# Altium schematic symbol library WE-WIRL.SchLib: 52 symbols
Pins are listed as number, name and electrical type; pins without a type are passive.

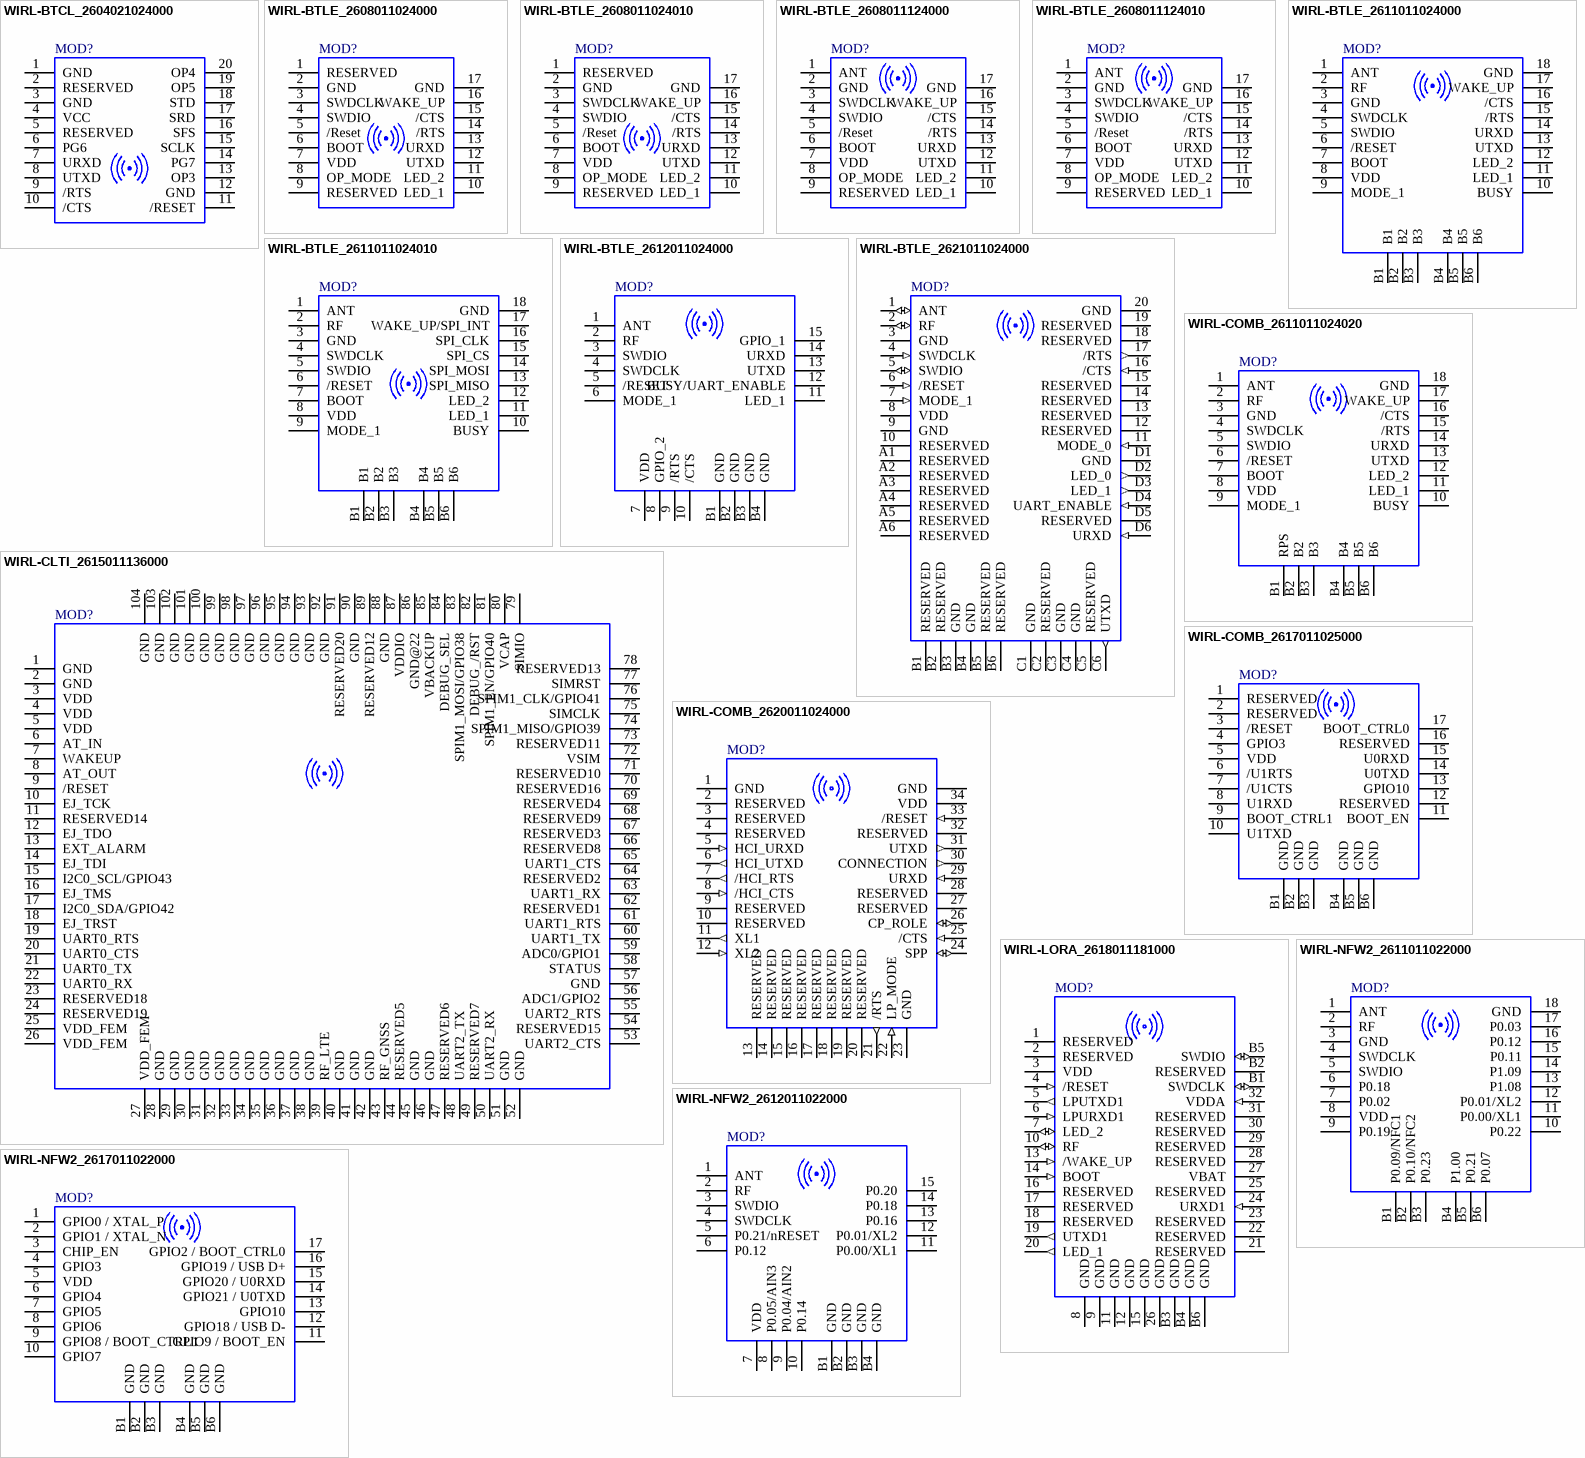
[diagram p0: symbols WIRL-BTCL_2604021024000 to WIRL-NFW2_2617011022000]

## WIRL-BTCL_2604021024000
designator MOD?
Puck-I - Bluetooth Classic Radio Module NRND; Part Number: 2604021024000; RX sensitivity e.r.p.: -80dBm; Line of Sight Range: 20m; Frequency: 2402-2480MHz; Output Power e.r.p.: 1.4dBm; Operating Supply Voltage max.: 3.6V; Operating Supply Voltage min.: 2.9V; RF Bitrate max.: 2000kbps; ComponentLink1Description: Manufacturer; ComponentLink1URL: http://www.we-online.de; ComponentLink2Description: Datasheet; ComponentLink2URL: https://katalog.we-online.de/wco/datasheet/2604021024000.pdf; Published Date: April 2019; Publisher: Wurth Elektronik; Operating Temperature: -40 to +85degC; Mounting Technology: SMT; Packaging: Tape and Reel
footprint 2604021024000
pins: 1 GND, 2 RESERVED, 3 GND, 4 VCC, 5 RESERVED, 6 PG6, 7 URXD, 8 UTXD, 9 /RTS, 10 /CTS, 11 /RESET, 12 GND, 13 OP3, 14 PG7, 15 SCLK, 16 SFS, 17 SRD, 18 STD, 19 OP5, 20 OP4

## WIRL-BTLE_2608011024000
designator MOD?
Proteus-I - Bluetooth Smart 4.2 Module, with PCB-antenna; Part Number: 2608011024000; RX sensitivity e.r.p.: -91dBm; Line of Sight Range: 50m; Frequency: 2402-2480MHz; Output Power e.r.p.: -2dBm; Operating Supply Voltage max.: 3.6V; Operating Supply Voltage min.: 1.8V; RF Bitrate max.: 1000kbps; ComponentLink1Description: Manufacturer; ComponentLink1URL: http://www.we-online.de; ComponentLink2Description: Datasheet; ComponentLink2URL: https://katalog.we-online.de/wco/datasheet/2608011024000.pdf; Published Date: April 2019; Publisher: Wurth Elektronik; Operating Temperature: -40 to +85degC; Mounting Technology: SMT; Packaging: Tape and Reel
footprint WE-FP-4
pins: 1 RESERVED, 2 GND, 3 SWDCLK, 4 SWDIO, 5 /Reset, 6 BOOT, 7 VDD, 8 OP_MODE, 9 RESERVED, 10 LED_1, 11 LED_2, 12 UTXD, 13 URXD, 14 /RTS, 15 /CTS, 16 WAKE_UP, 17 GND

## WIRL-BTLE_2608011024010
designator MOD?
Proteus-II - Bluetooth Smart 5.0 Module, with PCB-antenna; Part Number: 2608011024010; RX sensitivity e.r.p.: -91dBm; Line of Sight Range: 50m; Frequency: 2402-2480MHz; Output Power e.r.p.: -2dBm; Operating Supply Voltage max.: 3.6V; Operating Supply Voltage min.: 1.8V; RF Bitrate max.: 2000kbps; ComponentLink1Description: Manufacturer; ComponentLink1URL: http://www.we-online.de; ComponentLink2Description: Datasheet; ComponentLink2URL: https://katalog.we-online.de/wco/datasheet/2608011024010.pdf; Published Date: April 2019; Publisher: Wurth Elektronik; Operating Temperature: -40 to +85degC; Mounting Technology: SMT; Packaging: Tape and Reel
footprint WE-FP-4
pins: 1 RESERVED, 2 GND, 3 SWDCLK, 4 SWDIO, 5 /Reset, 6 BOOT, 7 VDD, 8 OP_MODE, 9 RESERVED, 10 LED_1, 11 LED_2, 12 UTXD, 13 URXD, 14 /RTS, 15 /CTS, 16 WAKE_UP, 17 GND

## WIRL-BTLE_2608011124000
designator MOD?
Proteus-I - Bluetooth Smart 4.2 Module, with module-pad; Part Number: 2608011124000; RX sensitivity e.r.p.: –; Line of Sight Range: 100m; Frequency: 2402-2480MHz; Operating Supply Voltage max.: 3.6V; Operating Supply Voltage min.: 1.8V; RF Bitrate max.: 1000kbps; ComponentLink1Description: Manufacturer; ComponentLink1URL: http://www.we-online.de; ComponentLink2Description: Datasheet; ComponentLink2URL: https://katalog.we-online.de/wco/datasheet/2608011124000.pdf; Published Date: April 2019; Publisher: Wurth Elektronik; Operating Temperature: -40 to +85degC; Mounting Technology: SMT; Packaging: Tape and Reel; Output Power e.r.p.: –
footprint WE-FP-4
pins: 1 ANT, 2 GND, 3 SWDCLK, 4 SWDIO, 5 /Reset, 6 BOOT, 7 VDD, 8 OP_MODE, 9 RESERVED, 10 LED_1, 11 LED_2, 12 UTXD, 13 URXD, 14 /RTS, 15 /CTS, 16 WAKE_UP, 17 GND

## WIRL-BTLE_2608011124010
designator MOD?
Proteus-II - Bluetooth Smart 5.0 Module, with RF-signal to module-pad; Part Number: 2608011124010; RX sensitivity e.r.p.: –; Line of Sight Range: 100m; Frequency: 2402-2480MHz; Operating Supply Voltage max.: 3.6V; Operating Supply Voltage min.: 1.8V; RF Bitrate max.: 2000kbps; ComponentLink1Description: Manufacturer; ComponentLink1URL: http://www.we-online.de; ComponentLink2Description: Datasheet; ComponentLink2URL: https://katalog.we-online.de/wco/datasheet/2608011124010.pdf; Published Date: April 2019; Publisher: Wurth Elektronik; Operating Temperature: -40 to +85degC; Mounting Technology: SMT; Packaging: Tape and Reel; Output Power e.r.p.: –
footprint WE-FP-4
pins: 1 ANT, 2 GND, 3 SWDCLK, 4 SWDIO, 5 /Reset, 6 BOOT, 7 VDD, 8 OP_MODE, 9 RESERVED, 10 LED_1, 11 LED_2, 12 UTXD, 13 URXD, 14 /RTS, 15 /CTS, 16 WAKE_UP, 17 GND

## WIRL-BTLE_2611011024000
designator MOD?
Proteus-III - Bluetooth® LE 5.1 Module; Part Number: 2611011024000; RX sensitivity e.r.p.: –; Line of Sight Range: 400; Frequency: 2402-2480MHz; Operating Supply Voltage max.: 3.6V; Operating Supply Voltage min.: 1.8V; RF Bitrate max.: 2000kbps; ComponentLink1Description: Manufacturer; ComponentLink1URL: http://www.we-online.de; ComponentLink2Description: Datasheet; ComponentLink2URL: https://katalog.we-online.de/wco/datasheet/2611011024000.pdf; Published Date: April 2019; Publisher: Wurth Elektronik; Operating Temperature: -40 to +85degC; Mounting Technology: SMT; Packaging: Tape and Reel; Output Power e.r.p.: –
footprint WE-FP-4+
pins: 1 ANT, 2 RF, 3 GND, 4 SWDCLK, 5 SWDIO, 6 /RESET, 7 BOOT, 8 VDD, 9 MODE_1, 10 BUSY, 11 LED_1, 12 LED_2, 13 UTXD, 14 URXD, 15 /RTS, 16 /CTS, 17 WAKE_UP, 18 GND, B1, B2, B3, B4, B5, B6

## WIRL-BTLE_2611011024010
designator MOD?
Proteus-III-SPI Bluetooth® LE 5.1 Module; Part Number: 2611011024000; RX sensitivity e.r.p.: –; Line of Sight Range: 400; Frequency: 2402-2480MHz; Operating Supply Voltage max.: 3.6V; Operating Supply Voltage min.: 1.8V; RF Bitrate max.: 2000kbps; ComponentLink1Description: Manufacturer; ComponentLink1URL: http://www.we-online.de; ComponentLink2Description: Datasheet; ComponentLink2URL: https://katalog.we-online.de/wco/datasheet/2611011024010.pdf; Published Date: April 2019; Publisher: Wurth Elektronik; Operating Temperature: -40 to +85degC; Mounting Technology: SMT; Packaging: Tape and Reel; Output Power e.r.p.: –
footprint WE-FP-4+
pins: 1 ANT, 2 RF, 3 GND, 4 SWDCLK, 5 SWDIO, 6 /RESET, 7 BOOT, 8 VDD, 9 MODE_1, 10 BUSY, 11 LED_1, 12 LED_2, 13 SPI_MISO, 14 SPI_MOSI, 15 SPI_CS, 16 SPI_CLK, 17 WAKE_UP/SPI_INT, 18 GND, B1, B2, B3, B4, B5, B6

## WIRL-BTLE_2612011024000
designator MOD?
Proteus-e Bluetooth® LE 5.1 Module; Part Number: 2612011024000; RX sensitivity e.r.p: -85; Line of Sight: 350m; Frequency: 2402-2480MHz; Output Power e.r.p: -4dBm; Operating Supply Voltage max.: 3.6V; Operating Supply Voltage min.: 1.8V; Published Date: Jan 2022; Publisher: Würth Elektronik; Operating Temperature: -40 to +85degC; Mounting technology: SMT; Packaging: Tape and reel; ComponentLink1Description: Manufacturer; ComponentLink1URL: http://www.we-online.de; ComponentLink2Description: Datasheet; ComponentLink2URL: https://katalog.we-online.de/wco/datasheet/2612011024000.pdf
footprint WE-FP-6 (Proteus-E/Ophelia-I 2.4GHz Module)
pins: 1 ANT, 2 RF, 3 SWDIO, 4 SWDCLK, 5 /RESET, 6 MODE_1, 7 VDD, 8 GPIO_2, 9 /RTS, 10 /CTS, 11 LED_1, 12 BUSY/UART_ENABLE, 13 UTXD, 14 URXD, 15 GPIO_1, B1 GND, B2 GND, B3 GND, B4 GND

## WIRL-BTLE_2621011024000
designator MOD?
Proteus-IV Bluetooth 6.0 module; Manufacturer Part Number: 2621011024000; Manufacturer: Wurth Elektronik; Match Code: WIRL-BTLE; Mount: Surface Mount; Min Operating Temperature: -40°C; Max Operating Temperature: 105°C; Packaging: Tape; Length: 12mm; Width: 8mm; Height: 2.3mm
footprint 2621011024000
pins: 1 ANT (io), 2 RF (io), 3 GND (power), 4 SWDCLK (in), 5 SWDIO (io), 6 /RESET (in), 7 MODE_1 (in), 8 VDD (power), 9 GND (power), 10 RESERVED, 11 MODE_0 (in), 12 RESERVED, 13 RESERVED, 14 RESERVED, 15 RESERVED, 16 /CTS (in), 17 /RTS (out), 18 RESERVED, 19 RESERVED, 20 GND (power), A1 RESERVED, A2 RESERVED, A3 RESERVED, A4 RESERVED, A5 RESERVED, A6 RESERVED, B1 RESERVED, B2 RESERVED, B3 GND (power), B4 GND (power), B5 RESERVED, B6 RESERVED, C1 GND (power), C2 RESERVED, C3 GND (power), C4 GND (power), C5 RESERVED, C6 UTXD (out), D1 GND (power), D2 LED_0 (out), D3 LED_1 (out), D4 UART_ENABLE (in), D5 RESERVED, D6 URXD (in)

## WIRL-CLTI_2615011136000
designator MOD?
Cellular Technology: LTE-Cat.m and LTE-Cat.NB-IoT Integrated GNSS and Integrated MCU; Part Number: 2615011136000; MANUFACTURER: Wuerth Elektronik; Operating Supply Voltage max.: 4.3V; LTE Bands (LTE Cat.M): B2/B3/B4/B5/B8/B12/B20/B25/B26/B28; LTE Bands (NB-IoT): B3/B5/B8/B20/B28; Operating Supply Voltage min.: 2.3V; Operating Supply Voltage Front End Module Min.: 3.1V; Published Date: April 2022; Publisher: Wuerth Elektronik; Packaging: Tape and Reel; HEIGHT: 1.85mm; ComponentLink1Description: Manufacturer; ComponentLink1URL: http://www.we-online.de; ComponentLink2Description: Datasheet; ComponentLink2URL: https://www.we-online.com/katalog/datasheet/2615011136000.pdf; Mounting Technology: SMT; Operating Supply Voltage Front End Module Max.: 4.3V
footprint 2615011136000
pins: 1 GND, 2 GND, 3 VDD, 4 VDD, 5 VDD, 6 AT_IN, 7 WAKEUP, 8 AT_OUT, 9 /RESET, 10 EJ_TCK, 11 RESERVED14, 12 EJ_TDO, 13 EXT_ALARM, 14 EJ_TDI, 15 I2C0_SCL/GPIO43, 16 EJ_TMS, 17 I2C0_SDA/GPIO42, 18 EJ_TRST, 19 UART0_RTS, 20 UART0_CTS, 21 UART0_TX, 22 UART0_RX, 23 RESERVED18, 24 RESERVED19, 25 VDD_FEM, 26 VDD_FEM (power), 27 VDD_FEM, 28 GND, 29 GND, 30 GND, 31 GND, 32 GND, 33 GND, 34 GND, 35 GND, 36 GND, 37 GND, 38 GND, 39 RF_LTE, 40 GND, 41 GND, 42 GND, 43 RF_GNSS, 44 RESERVED5, 45 GND, 46 GND, 47 RESERVED6, 48 UART2_TX, 49 RESERVED7, 50 UART2_RX, 51 GND, 52 GND, 53 UART2_CTS, 54 RESERVED15, 55 UART2_RTS, 56 ADC1/GPIO2, 57 GND, 58 STATUS, 59 ADC0/GPIO1, 60 UART1_TX, 61 UART1_RTS, 62 RESERVED1, 63 UART1_RX, 64 RESERVED2, 65 UART1_CTS, 66 RESERVED8, 67 RESERVED3, 68 RESERVED9, 69 RESERVED4, 70 RESERVED16, 71 RESERVED10, 72 VSIM, 73 RESERVED11, 74 SPIM1_MISO/GPIO39, 75 SIMCLK, 76 SPIM1_CLK/GPIO41, 77 SIMRST, 78 RESERVED13, 79 SIMIO, 80 VCAP, 81 SPIM1_EN/GPIO40, 82 DEBUG_/RST, 83 SPIM1_MOSI/GPIO38, 84 DEBUG_SEL, 85 VBACKUP, 86 GND@22, 87 VDDIO, 88 GND, 89 RESERVED12, 90 GND, 91 RESERVED20, 92 GND, 93 GND, 94 GND, 95 GND, 96 GND, 97 GND, 98 GND, 99 GND, 100 GND, 101 GND, 102 GND, 103 GND, 104 GND (power)

## WIRL-COMB_2611011024020
designator MOD?
Setebos-I - Combined Proprietary 2.4 GHz and Bluetooth® LE 5.1 Module; Part Number: 2611011024020; RX sensitivity e.r.p.: -98 dBm; Line of Sight Range: 600; Frequency: 2402-2480MHz; Output Power e.r.p.: 4 dBm; Operating Supply Voltage max.: 3.6 V; Operating Supply Voltage min.: 3 V; RF Bitrate max.: 2 Mbps; ComponentLink1Description: Manufacturer; ComponentLink1URL: http://www.we-online.de; ComponentLink2Description: Datasheet; ComponentLink2URL: https://katalog.we-online.de/wco/datasheet/2611011024020.pdf; Published Date: July 2021; Publisher: Wurth Elektronik; Operating Temperature: -40 to +85degC; Mounting Technology: SMT; Packaging: Tape and Reel
footprint WE-FP-4+
pins: 1 ANT, 2 RF, 3 GND, 4 SWDCLK, 5 SWDIO, 6 /RESET, 7 BOOT, 8 VDD, 9 MODE_1, 10 BUSY, 11 LED_1, 12 LED_2, 13 UTXD, 14 URXD, 15 /RTS, 16 /CTS, 17 WAKE_UP, 18 GND, B1 RPS, B2, B3, B4, B5, B6

## WIRL-COMB_2617011025000
designator MOD?
Stephano-I - Combined 2.4 GHz Wi-Fi and Bluetooth® LE 5.0 Module; Part Number: 2617011025000; RX sensitivity e.r.p.: -98 dBm; Line of Sight Range: 600; Frequency: 2402-2480MHz; Output Power e.r.p.: 4 dBm; Operating Supply Voltage max.: 3.6 V; Operating Supply Voltage min.: 3 V; RF Bitrate max.: 2 Mbps; ComponentLink1Description: Manufacturer; ComponentLink1URL: http://www.we-online.de; ComponentLink2Description: Datasheet; ComponentLink2URL: https://katalog.we-online.de/wco/datasheet/2617011025000.pdf; Published Date: October 2023; Publisher: Wurth Elektronik; Operating Temperature: -40 to +85degC; Mounting Technology: SMT; Packaging: Tape and Reel
footprint WE-FP-7
pins: 1 RESERVED, 2 RESERVED, 3 /RESET, 4 GPIO3, 5 VDD, 6 /U1RTS, 7 /U1CTS, 8 U1RXD, 9 BOOT_CTRL1, 10 U1TXD, 11 BOOT_EN, 12 RESERVED, 13 GPIO10, 14 U0TXD, 15 U0RXD, 16 RESERVED, 17 BOOT_CTRL0, B1 GND, B2 GND, B3 GND, B4 GND, B5 GND, B6 GND

## WIRL-COMB_2620011024000
designator MOD?
Skoll-I - Bluetooth® Classic and Bluetooth® LE 2.4 GHz; Manufacturer: Würth Elektronik; NR: 2620011024000; Operating Supply Voltage max.: 3.3 V; Operating Supply Voltage min.: 1.71 V; Package: WE-FP-9; Height: 1.7mm; Mounting technology: SMT; Packaging: Tape and reel; Operating temperature: -30°C to 85° C
footprint WE-FP-9
pins: 1 GND (power), 2 RESERVED, 3 RESERVED, 4 RESERVED, 5 HCI_URXD  (in), 6 HCI_UTXD  (out), 7 /HCI_RTS (out), 8 /HCI_CTS (in), 9 RESERVED, 10 RESERVED, 11 XL1 (out), 12 XL2 (in), 13 RESERVED, 14 RESERVED, 15 RESERVED, 16 RESERVED, 17 RESERVED, 18 RESERVED, 19 RESERVED, 20 RESERVED, 21 /RTS (out), 22 LP_MODE (in), 23 GND (power), 24 SPP (io), 25 /CTS (in), 26 CP_ROLE (io), 27 RESERVED, 28 RESERVED, 29 URXD (in), 30 CONNECTION (out), 31 UTXD (out), 32 RESERVED, 33 /RESET (in), 34 VDD (power), 35 GND (power)

## WIRL-LORA_2618011181000
designator MOD?
Daphnis-I - LoRaWAN Radio Module 868 MHz,; Manufacturer: Würth Elektronik; NR: 2618011181000; Frequency: 863 MHz to 870 MHz; Operating Supply Voltage max.: 3.6 V; Operating Supply Voltage min.: 2.0 V; Operating temperature: -40°C to 85° C; Mounting technology: SMT; Packaging: Tape and reel; Height: 3.0 mm
footprint WE-FP-8
pins: 1 RESERVED, 2 RESERVED, 3 VDD (power), 4 /RESET (in), 5 LPUTXD1 (out), 6 LPURXD1 (in), 7 LED_2 (io), 8 GND (power), 9 GND (power), 10 RF (io), 11 GND (power), 12 GND (power), 13 /WAKE_UP (in), 14 BOOT (in), 15 GND (power), 16 RESERVED, 17 RESERVED, 18 RESERVED, 19 UTXD1 (out), 20 LED_1 (out), 21 RESERVED, 22 RESERVED, 23 RESERVED, 24 URXD1 (in), 25 RESERVED, 26 GND (power), 27 VBAT (power), 28 RESERVED, 29 RESERVED, 30 RESERVED, 31 RESERVED, 32 VDDA (in), B1 SWDCLK (io), B2 RESERVED, B3 GND (power), B4 GND (power), B5 SWDIO (io), B6 GND (power)

## WIRL-NFW2_2611011022000
designator MOD?
Ophelia-III - Radio Module 2.4 GHz without firmware; Part Number: 2611011022000; RX sensitivity e.r.p.: –; Line of Sight Range: 400; Frequency: 2402-2480MHz; Operating Supply Voltage max.: 3.6V; Operating Supply Voltage min.: 1.8V; RF Bitrate max.: 2000kbps; ComponentLink1Description: Manufacturer; ComponentLink1URL: http://www.we-online.de; ComponentLink2Description: Datasheet; ComponentLink2URL: https://katalog.we-online.de/wco/datasheet/2611011022000.pdf; Published Date: April 2023; Publisher: Wurth Elektronik; Operating Temperature: -40 to +85degC; Mounting Technology: SMT; Packaging: Tape and Reel; Output Power e.r.p.: –
footprint WE-FP-4+
pins: 1 ANT, 2 RF, 3 GND, 4 SWDCLK, 5 SWDIO, 6 P0.18, 7 P0.02, 8 VDD, 9 P0.19, 10 P0.22, 11 P0.00/XL1, 12 P0.01/XL2, 13 P1.08, 14 P1.09, 15 P0.11, 16 P0.12, 17 P0.03, 18 GND, B1 P0.09/NFC1, B2 P0.10/NFC2, B3 P0.23, B4 P1.00, B5 P0.21, B6 P0.07

## WIRL-NFW2_2612011022000
designator MOD?
Ophelia-I Radio Module; Part Number: 2612011022000; RX sensitivity e.r.p.: -85; Line of Sight Range: 350m; Frequency: 2402-2480MHz; Output Power e.r.p.: -4dBm; Operating Supply Voltage max.: 3.6V; Operating Supply Voltage min.: 1.8V; ComponentLink1Description: Manufacturer; ComponentLink1URL: http://www.we-online.de; ComponentLink2Description: Datasheet; ComponentLink2URL: https://katalog.we-online.de/wco/datasheet/2612011022000.pdf; Published Date: Jan 2022; Publisher: Würth Elektronik; Operating Temperature: -40 to +85degC; Mounting Technology: SMT; Packaging: Tape and Reel
footprint WE-FP-6 (Proteus-E/Ophelia-I 2.4GHz Module)
pins: 1 ANT, 2 RF, 3 SWDIO, 4 SWDCLK, 5 P0.21/nRESET, 6 P0.12, 7 VDD, 8 P0.05/AIN3, 9 P0.04/AIN2, 10 P0.14, 11 P0.00/XL1, 12 P0.01/XL2, 13 P0.16, 14 P0.18, 15 P0.20, B1 GND, B2 GND, B3 GND, B4 GND

## WIRL-NFW2_2617011022000
designator MOD?
Orthosie-I- WIFI-BT module T&R; Part Number: 2617011025000; RX sensitivity e.r.p.: -98 dBm; Line of Sight Range: 600; Frequency: 2402-2480MHz; Output Power e.r.p.: 4 dBm; Operating Supply Voltage max.: 3.6 V; Operating Supply Voltage min.: 3 V; RF Bitrate max.: 2 Mbps; ComponentLink1Description: Manufacturer; ComponentLink1URL: http://www.we-online.de; ComponentLink2Description: Datasheet; ComponentLink2URL: https://katalog.we-online.de/wco/datasheet/2617011025000.pdf; Published Date: October 2023; Publisher: Wurth Elektronik; Operating Temperature: -40 to +85degC; Mounting Technology: SMT; Packaging: Tape and Reel
footprint WE-FP-7
pins: 1 GPIO0 / XTAL_P, 2 GPIO1 / XTAL_N, 3 CHIP_EN, 4 GPIO3, 5 VDD, 6 GPIO4, 7 GPIO5, 8 GPIO6, 9 GPIO8 / BOOT_CTRL1, 10 GPIO7, 11 GPIO9 / BOOT_EN, 12 GPIO18 / USB D-, 13 GPIO10, 14 GPIO21 / U0TXD, 15 GPIO20 / U0RXD, 16 GPIO19 / USB D+, 17 GPIO2 / BOOT_CTRL0, B1 GND, B2 GND, B3 GND, B4 GND, B5 GND, B6 GND

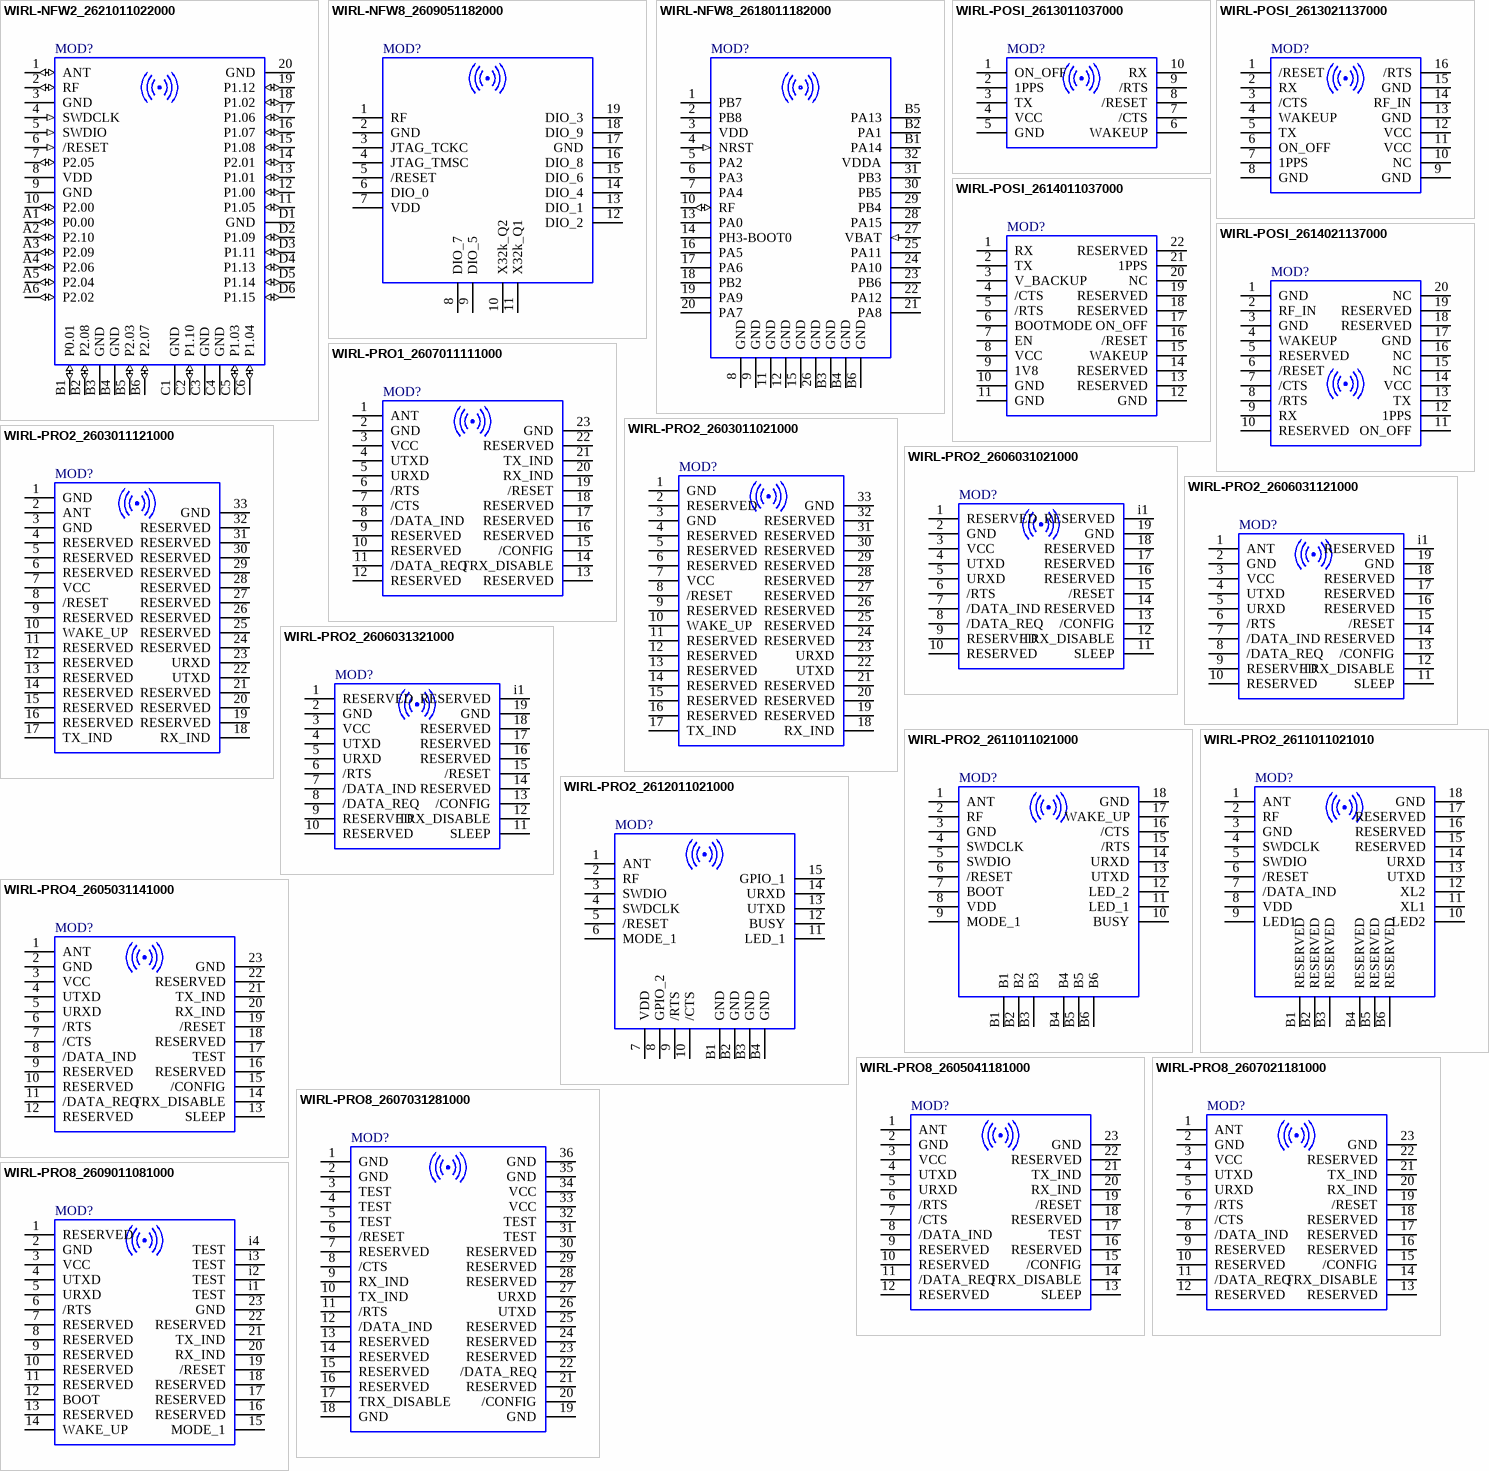
[diagram p1: symbols WIRL-NFW2_2621011022000 to WIRL-PRO8_2609011081000]

## WIRL-NFW2_2621011022000
designator MOD?
Ophelia-IV - Radio Module 2.4 GHz without firmware  WIRL-NFW2 build your own firmware Module   Details see: https://we-online.de/katalog/en/article/2611011022000/
footprint 2621011022000 (Ophelia-IV Radio module without firmware)
pins: 1 ANT (io), 2 RF (io), 3 GND (power), 4 SWDCLK (in), 5 SWDIO (in), 6 /RESET (in), 7 P2.05 (io), 8 VDD (power), 9 GND (power), 10 P2.00 (io), 11 P1.05 (io), 12 P1.00 (io), 13 P1.01 (io), 14 P2.01 (io), 15 P1.08 (io), 16 P1.07 (io), 17 P1.06 (io), 18 P1.02 (io), 19 P1.12 (io), 20 GND (power), A1 P0.00 (io), A2 P2.10 (io), A3 P2.09 (io), A4 P2.06 (io), A5 P2.04 (io), A6 P2.02 (io), B1 P0.01 (io), B2 P2.08 (io), B3 GND (power), B4 GND (power), B5 P2.03 (io), B6 P2.07 (io), C1 GND (power), C2 P1.10 (io), C3 GND (power), C4 GND (power), C5 P1.03 (io), C6 P1.04 (io), D1 GND (power), D2 P1.09 (io), D3 P1.11 (io), D4 P1.13 (io), D5 P1.14 (io), D6 P1.15 (io)

## WIRL-NFW8_2609051182000
designator MOD?
868 MHz Radio Module without firmware; MANUFACTURER: Würth Elektronik; NR: 2609051181000; Operating Supply Voltage max.: 3.8 V; Operating Supply Voltage min.: 2.2 V; Packaging: Tape and reel; HEIGHT: 2mm; Mounting technology: SMT; Operating temperature: -40°C to 85° C; ComponentLink1Description: Manufacturer; ComponentLink1URL: http://www.we-online.de; ComponentLink2Description: Datasheet; ComponentLink2URL: https://we-online.de/katalog/en/article/2609051181000
footprint WE-FP-4B
pins: 1 RF, 2 GND, 3 JTAG_TCKC, 4 JTAG_TMSC, 5 /RESET, 6 DIO_0, 7 VDD, 8 DIO_7, 9 DIO_5, 10 X32k_Q2, 11 X32k_Q1, 12 DIO_2, 13 DIO_1, 14 DIO_4, 15 DIO_6, 16 DIO_8, 17 GND, 18 DIO_9, 19 DIO_3

## WIRL-NFW8_2618011182000
designator MOD?
Oceanus-I - Radio Module 868 MHz without firmware; Manufacturer: Würth Elektronik; NR: 2618011182000; Frequency: 863 MHz to 870 MHz; Operating Supply Voltage max.: 3.6 V; Operating Supply Voltage min.: 2.0 V; Operating temperature: -40°C to 85° C; Mounting technology: SMT; Packaging: Tape and reel; Height: 3.0 mm
footprint WE-FP-8
pins: 1 PB7, 2 PB8, 3 VDD (power), 4 NRST (in), 5 PA2, 6 PA3, 7 PA4, 8 GND (power), 9 GND (power), 10 RF (io), 11 GND (power), 12 GND (power), 13 PA0, 14 PH3-BOOT0, 15 GND (power), 16 PA5, 17 PA6, 18 PB2, 19 PA9, 20 PA7, 21 PA8, 22 PA12, 23 PB6, 24 PA10, 25 PA11, 26 GND (power), 27 VBAT (in), 28 PA15, 29 PB4, 30 PB5, 31 PB3, 32 VDDA (power), B1 PA14, B2 PA1, B3 GND (power), B4 GND (power), B5 PA13, B6 GND (power)

## WIRL-POSI_2613011037000
designator MOD?
Elara-I GNSS Module -  GPS and GLONASS.; Part Number: 2613011037000; Published Date: Jan 2022; Publisher: Würth Elektronik; Height: 5.9mm; Package: SMT; ComponentLink1Description: Manufacturer; ComponentLink1URL: http://www.we-online.de; ComponentLink2Description: Datasheet; ComponentLink2URL: https://katalog.we-online.de/wco/datasheet/2613011037000.pdf
footprint 2613011037000
pins: 1 ON_OFF, 2 1PPS, 3 TX, 4 VCC, 5 GND, 6 WAKEUP, 7 /CTS, 8 /RESET, 9 /RTS, 10 RX

## WIRL-POSI_2613021137000
designator MOD?
Elara-II GNSS Module -  GPS and GLONASS.; Part Number: 2613021137000; Published Date: Jan 2022; Publisher: Würth Elektronik; Height: 2.2mm; Package: SMT; ComponentLink1Description: Manufacturer; ComponentLink1URL: http://www.we-online.de; ComponentLink2Description: Datasheet; ComponentLink2URL: https://katalog.we-online.de/wco/datasheet/2613021137000.pdf
footprint 2613021137000
pins: 1 /RESET, 2 RX, 3 /CTS, 4 WAKEUP, 5 TX, 6 ON_OFF, 7 1PPS, 8 GND, 9 GND, 10 NC, 11 VCC, 12 VCC, 13 GND, 14 RF_IN, 15 GND, 16 /RTS

## WIRL-POSI_2614011037000
designator MOD?
Erinome-I GNSS Module - BeiDou, Galileo, GPS, GLONASS.; Part Number: 2614011037000; Published Date: Jan 2022; Publisher: Würth Elektronik; Height: 6.4mm; Package: SMT; ComponentLink1Description: Manufacturer; ComponentLink1URL: http://www.we-online.de; ComponentLink2Description: Datasheet; ComponentLink2URL: https://katalog.we-online.de/wco/datasheet/2614011037000.pdf
footprint 2614011037000
pins: 1 RX, 2 TX, 3 V_BACKUP, 4 /CTS, 5 /RTS, 6 BOOTMODE, 7 EN, 8 VCC, 9 1V8, 10 GND, 11 GND, 12 GND, 13 RESERVED, 14 RESERVED, 15 WAKEUP, 16 /RESET, 17 ON_OFF, 18 RESERVED, 19 RESERVED, 20 NC, 21 1PPS, 22 RESERVED

## WIRL-POSI_2614021137000
designator MOD?
Erinome-II GNSS Module - BeiDou, Galileo, GPS, GLONASS.; Part number: 2614021137000; Published Date: Jan 2022; Publisher: Würth Elektronik; Height: 1.6mm; Package: SMT; ComponentLink1Description: Manufacturer; ComponentLink1URL: http://www.we-online.de; ComponentLink2Description: Datasheet; ComponentLink2URL: https://katalog.we-online.de/wco/datasheet/2614011137000.pdf
footprint 2614021137000
pins: 1 GND, 2 RF_IN, 3 GND, 4 WAKEUP, 5 RESERVED, 6 /RESET, 7 /CTS, 8 /RTS, 9 RX, 10 RESERVED, 11 ON_OFF, 12 1PPS, 13 TX, 14 VCC, 15 NC, 16 NC, 17 GND, 18 RESERVED, 19 RESERVED, 20 NC

## WIRL-PRO1_2607011111000
designator MOD?
Titania - Radio Module 169 MHz; Part Number: 2607011111000; Line of Sight Range: 3000m; Frequency: 169.4125-169.475MHz; Operating Supply Voltage max.: 3.6V; Operating Supply Voltage min.: 2V; RF Bitrate max.: 25kbps; ComponentLink1Description: Manufacturer; ComponentLink1URL: http://www.we-online.de; ComponentLink2Description: Datasheet; ComponentLink2URL: https://katalog.we-online.de/wco/datasheet/2607011111000.pdf; Published Date: April 2019; Publisher: Wurth Elektronik; Operating Temperature: -40 to +85degC; Mounting Technology: SMT; Packaging: Tape and Reel
footprint WE-FP-1
pins: 1 ANT, 2 GND, 3 VCC, 4 UTXD, 5 URXD, 6 /RTS, 7 /CTS, 8 /DATA_IND, 9 RESERVED, 10 RESERVED, 11 /DATA_REQ, 12 RESERVED, 13 RESERVED, 14 TRX_DISABLE, 15 /CONFIG, 16 RESERVED, 17 RESERVED, 18 RESERVED, 19 /RESET, 20 RX_IND, 21 TX_IND, 22 RESERVED, 23 GND

## WIRL-PRO2_2603011021000
designator MOD?
Triton - Radio Modules 2.4 GHz, with int. antenna; Part Number: 2603011021000; RX sensitivity e.r.p.: -113dBm; Line of Sight Range: 500m; Frequency: 2401.5-2477.5MHz; Output Power e.r.p.: 7.5dBm; Operating Supply Voltage max.: 3.6V; Operating Supply Voltage min.: 1.9V; RF Bitrate max.: 72kbps; ComponentLink1Description: Manufacturer; ComponentLink1URL: http://www.we-online.de; ComponentLink2Description: Datasheet; ComponentLink2URL: https://katalog.we-online.de/wco/datasheet/2603011021000.pdf; Published Date: April 2019; Publisher: Wurth Elektronik; Operating Temperature: -40 to +85degC; Mounting Technology: SMT; Packaging: Tape and Reel
footprint WE-FP-2
pins: 1 GND, 2 RESERVED, 3 GND, 4 RESERVED, 5 RESERVED, 6 RESERVED, 7 VCC, 8 /RESET, 9 RESERVED, 10 WAKE_UP, 11 RESERVED, 12 RESERVED, 13 RESERVED, 14 RESERVED, 15 RESERVED, 16 RESERVED, 17 TX_IND, 18 RX_IND, 19 RESERVED, 20 RESERVED, 21 RESERVED, 22 UTXD, 23 URXD, 24 RESERVED, 25 RESERVED, 26 RESERVED, 27 RESERVED, 28 RESERVED, 29 RESERVED, 30 RESERVED, 31 RESERVED, 32 RESERVED, 33 GND

## WIRL-PRO2_2603011121000
designator MOD?
Triton - Radio Modules 2.4 GHz, with ext. antenna; Part Number: 2603011121000; RX sensitivity e.r.p.: –; Line of Sight Range: 5000m; Frequency: 2401.5-2477.5MHz; Operating Supply Voltage max.: 3.6V; Operating Supply Voltage min.: 1.9V; RF Bitrate max.: 72kbps; ComponentLink1Description: Manufacturer; ComponentLink1URL: http://www.we-online.de; ComponentLink2Description: Datasheet; ComponentLink2URL: https://katalog.we-online.de/wco/datasheet/2603011121000.pdf; Published Date: April 2019; Publisher: Wurth Elektronik; Operating Temperature: -40 to +85degC; Mounting Technology: SMT; Packaging: Tape and Reel; Output Power e.r.p.: –
footprint WE-FP-2
pins: 1 GND, 2 ANT, 3 GND, 4 RESERVED, 5 RESERVED, 6 RESERVED, 7 VCC, 8 /RESET, 9 RESERVED, 10 WAKE_UP, 11 RESERVED, 12 RESERVED, 13 RESERVED, 14 RESERVED, 15 RESERVED, 16 RESERVED, 17 TX_IND, 18 RX_IND, 19 RESERVED, 20 RESERVED, 21 RESERVED, 22 UTXD, 23 URXD, 24 RESERVED, 25 RESERVED, 26 RESERVED, 27 RESERVED, 28 RESERVED, 29 RESERVED, 30 RESERVED, 31 RESERVED, 32 RESERVED, 33 GND

## WIRL-PRO2_2606031021000
designator MOD?
Thalassa - Radio Modules 2.4 GHz, with antenna; Part Number: 2606031021000; RX sensitivity e.r.p.: -96dBm; Line of Sight Range: 150m; Frequency: 2400-2483.5MHz; Output Power e.r.p.: -6dBm; Operating Supply Voltage max.: 3.6V; Operating Supply Voltage min.: 2.7V; RF Bitrate max.: 500kbps; ComponentLink1Description: Manufacturer; ComponentLink1URL: http://www.we-online.de; ComponentLink2Description: Datasheet; ComponentLink2URL: https://katalog.we-online.de/wco/datasheet/2606031021000.pdf; Published Date: April 2019; Publisher: Wurth Elektronik; Operating Temperature: -30 to +85degC; Mounting Technology: SMT; Packaging: Tape and Reel
footprint 2606031021000
pins: 1 RESERVED, 2 GND, 3 VCC, 4 UTXD, 5 URXD, 6 /RTS, 7 /DATA_IND, 8 /DATA_REQ, 9 RESERVED, 10 RESERVED, 11 SLEEP, 12 TRX_DISABLE, 13 /CONFIG, 14 RESERVED, 15 /RESET, 16 RESERVED, 17 RESERVED, 18 RESERVED, 19 GND, i1 RESERVED

## WIRL-PRO2_2606031121000
designator MOD?
Thalassa - Radio Modules 2.4 GHz, without antenna; Part Number: 2606031121000; RX sensitivity e.r.p.: –; Line of Sight Range: 450m; Frequency: 2400-2483.5MHz; Operating Supply Voltage max.: 3.6V; Operating Supply Voltage min.: 2.7V; RF Bitrate max.: 500kbps; ComponentLink1Description: Manufacturer; ComponentLink1URL: http://www.we-online.de; ComponentLink2Description: Datasheet; ComponentLink2URL: https://katalog.we-online.de/wco/datasheet/2606031121000.pdf; Published Date: April 2019; Publisher: Wurth Elektronik; Operating Temperature: -30 to +85degC; Mounting Technology: SMT; Packaging: Tape and Reel; Output Power e.r.p.: –
footprint 2606031121000
pins: 1 ANT, 2 GND, 3 VCC, 4 UTXD, 5 URXD, 6 /RTS, 7 /DATA_IND, 8 /DATA_REQ, 9 RESERVED, 10 RESERVED, 11 SLEEP, 12 TRX_DISABLE, 13 /CONFIG, 14 RESERVED, 15 /RESET, 16 RESERVED, 17 RESERVED, 18 RESERVED, 19 GND, i1 RESERVED

## WIRL-PRO2_2606031321000
designator MOD?
Thalassa - Radio Modules 2.4 GHz, with U.FL; Part Number: 2606031321000; RX sensitivity e.r.p.: –; Line of Sight Range: 450m; Frequency: 2400-2483.5MHz; Operating Supply Voltage max.: 3.6V; Operating Supply Voltage min.: 2.7V; RF Bitrate max.: 500kbps; ComponentLink1Description: Manufacturer; ComponentLink1URL: http://www.we-online.de; ComponentLink2Description: Datasheet; ComponentLink2URL: https://katalog.we-online.de/wco/datasheet/2606031321000.pdf; Published Date: April 2019; Publisher: Wurth Elektronik; Operating Temperature: -30 to +85degC; Mounting Technology: SMT; Packaging: Tape and Reel; Output Power e.r.p.: –
footprint 2606031321000
pins: 1 RESERVED, 2 GND, 3 VCC, 4 UTXD, 5 URXD, 6 /RTS, 7 /DATA_IND, 8 /DATA_REQ, 9 RESERVED, 10 RESERVED, 11 SLEEP, 12 TRX_DISABLE, 13 /CONFIG, 14 RESERVED, 15 /RESET, 16 RESERVED, 17 RESERVED, 18 RESERVED, 19 GND, i1 RESERVED

## WIRL-PRO2_2611011021000
designator MOD?
Thyone-I - Radio Modules 2.4 GHz; Part Number: 2611011021000; RX sensitivity e.r.p.: –; Line of Sight Range: 750m; Frequency: 2402-2480MHz; Operating Supply Voltage max.: 3.6V; Operating Supply Voltage min.: 1.8V; RF Bitrate max.: 2000kbps; ComponentLink1Description: Manufacturer; ComponentLink1URL: http://www.we-online.de; ComponentLink2Description: Datasheet; ComponentLink2URL: https://katalog.we-online.de/wco/datasheet/2611011021000.pdf; Published Date: April 2019; Publisher: Wurth Elektronik; Operating Temperature: -40 to +85 degC; Mounting Technology: SMT; Packaging: Tape and Reel; Output Power e.r.p.: –
footprint WE-FP-4+
pins: 1 ANT, 2 RF, 3 GND, 4 SWDCLK, 5 SWDIO, 6 /RESET, 7 BOOT, 8 VDD, 9 MODE_1, 10 BUSY, 11 LED_1, 12 LED_2, 13 UTXD, 14 URXD, 15 /RTS, 16 /CTS, 17 WAKE_UP, 18 GND, B1, B2, B3, B4, B5, B6

## WIRL-PRO2_2611011021010
designator MOD?
Thetis-I - Wirepas™ Mesh Radio Module 2.4GHz; Part Number: 2611011021000; RX sensitivity e.r.p.: –; Line of Sight Range: 750m; Frequency: 2402-2480MHz; Operating Supply Voltage max.: 3.6V; Operating Supply Voltage min.: 1.8V; RF Bitrate max.: 2000kbps; ComponentLink1Description: Manufacturer; ComponentLink1URL: http://www.we-online.de; ComponentLink2Description: Datasheet; ComponentLink2URL: https://katalog.we-online.de/wco/datasheet/2611011021010.pdf; Published Date: April 2019; Publisher: Wurth Elektronik; Operating Temperature: -40 to +85 degC; Mounting Technology: SMT; Packaging: Tape and Reel; Output Power e.r.p.: –
footprint WE-FP-4+
pins: 1 ANT, 2 RF, 3 GND, 4 SWDCLK, 5 SWDIO, 6 /RESET, 7 /DATA_IND, 8 VDD, 9 LED1, 10 LED2, 11 XL1, 12 XL2, 13 UTXD, 14 URXD, 15 RESERVED, 16 RESERVED, 17 RESERVED, 18 GND, B1 RESERVED, B2 RESERVED, B3 RESERVED, B4 RESERVED, B5 RESERVED, B6 RESERVED

## WIRL-PRO2_2612011021000
designator MOD?
Thyone-e Radio Module 2.4 GHz; Part Number: 2612011021000; RX sensitivity e.r.p: -85; Line of Sight: 350m; Frequency: 2402-2480MHz; Output Power e.r.p: -4dBm; Operating Supply Voltage max.: 3.6V; Operating Supply Voltage min.: 1.8V; Published Date: Aug 2024; Publisher: Würth Elektronik; Operating Temperature: -40 to +85degC; Mounting technology: SMT; Packaging: Tape and reel; ComponentLink1Description: Manufacturer; ComponentLink1URL: http://www.we-online.de; ComponentLink2Description: Datasheet; ComponentLink2URL: https://katalog.we-online.de/wco/datasheet/2612011021000.pdf
footprint WE-FP-6
pins: 1 ANT, 2 RF, 3 SWDIO, 4 SWDCLK, 5 /RESET, 6 MODE_1, 7 VDD, 8 GPIO_2, 9 /RTS, 10 /CTS, 11 LED_1, 12 BUSY, 13 UTXD, 14 URXD, 15 GPIO_1, B1 GND, B2 GND, B3 GND, B4 GND

## WIRL-PRO4_2605031141000
designator MOD?
Thadeus - Radio Module 434 MHz; Part Number: 2605031141000; Line of Sight Range: 1000m; Frequency: 433.75-434.75MHz; Operating Supply Voltage max.: 3.6V; Operating Supply Voltage min.: 2.2V; RF Bitrate max.: 100kbps; ComponentLink1Description: Manufacturer; ComponentLink1URL: http://www.we-online.de; ComponentLink2Description: Datasheet; ComponentLink2URL: https://katalog.we-online.de/wco/datasheet/2605031141000.pdf; Published Date: April 2019; Publisher: Wurth Elektronik; Operating Temperature: -30 to +85degC; Mounting Technology: SMT; Packaging: Tape and Reel
footprint WE-FP-1
pins: 1 ANT, 2 GND, 3 VCC, 4 UTXD, 5 URXD, 6 /RTS, 7 /CTS, 8 /DATA_IND, 9 RESERVED, 10 RESERVED, 11 /DATA_REQ, 12 RESERVED, 13 SLEEP, 14 TRX_DISABLE, 15 /CONFIG, 16 RESERVED, 17 TEST, 18 RESERVED, 19 /RESET, 20 RX_IND, 21 TX_IND, 22 RESERVED, 23 GND

## WIRL-PRO8_2605041181000
designator MOD?
Tarvos-I - Radio Modules 868 MHz; Part Number: 2605041181000; RX sensitivity e.r.p.: –; Line of Sight Range: 1000m; Frequency: 868-868.6MHz; Operating Supply Voltage max.: 3.6V; Operating Supply Voltage min.: 2.2V; RF Bitrate max.: 100kbps; ComponentLink1Description: Manufacturer; ComponentLink1URL: http://www.we-online.de; ComponentLink2Description: Datasheet; ComponentLink2URL: https://katalog.we-online.de/wco/datasheet/2605041181000.pdf; Published Date: April 2019; Publisher: Wurth Elektronik; Operating Temperature: -30 to +85degC; Mounting Technology: SMT; Packaging: Tape and Reel; Output Power e.r.p.: –
footprint WE-FP-1
pins: 1 ANT, 2 GND, 3 VCC, 4 UTXD, 5 URXD, 6 /RTS, 7 /CTS, 8 /DATA_IND, 9 RESERVED, 10 RESERVED, 11 /DATA_REQ, 12 RESERVED, 13 SLEEP, 14 TRX_DISABLE, 15 /CONFIG, 16 RESERVED, 17 TEST, 18 RESERVED, 19 /RESET, 20 RX_IND, 21 TX_IND, 22 RESERVED, 23 GND

## WIRL-PRO8_2607021181000
designator MOD?
Tarvos-II - Radio Modules 868 MHz; Part Number: 2607021181000; RX sensitivity e.r.p.: –; Line of Sight Range: 2000m; Frequency: 868-870MHz; Operating Supply Voltage max.: 3.6V; Operating Supply Voltage min.: 2V; RF Bitrate max.: 100kbps; ComponentLink1Description: Manufacturer; ComponentLink1URL: http://www.we-online.de; ComponentLink2Description: Datasheet; ComponentLink2URL: https://katalog.we-online.de/wco/datasheet/2607021181000.pdf; Published Date: April 2019; Publisher: Wurth Elektronik; Operating Temperature: -40 to +85degC; Mounting Technology: SMT; Packaging: Tape and Reel; Output Power e.r.p.: –
footprint WE-FP-1
pins: 1 ANT, 2 GND, 3 VCC, 4 UTXD, 5 URXD, 6 /RTS, 7 /CTS, 8 /DATA_IND, 9 RESERVED, 10 RESERVED, 11 /DATA_REQ, 12 RESERVED, 13 RESERVED, 14 TRX_DISABLE, 15 /CONFIG, 16 RESERVED, 17 RESERVED, 18 RESERVED, 19 /RESET, 20 RX_IND, 21 TX_IND, 22 RESERVED, 23 GND

## WIRL-PRO8_2607031281000
designator MOD?
Thebe-I Radio Modules 868MHz; Part Number: 2607031281000; RX sensitivity e.r.p.: –; Line of Sight Range: 14000m; Frequency: 869.4-869.65MHz; Operating Supply Voltage max.: 3.6V; Operating Supply Voltage min.: 2V; RF Bitrate max.: 50kbps; ComponentLink1Description: Manufacturer; ComponentLink1URL: http://www.we-online.de; Published Date: April 2019; Publisher: Wurth Elektronik; Operating Temperature: -40 to +85degC; Mounting Technology: SMT; Packaging: Tape and Reel; Output Power e.r.p.: –
footprint 2607031281000 (Radio module 868MHz)
pins: 1 GND, 2 GND, 3 TEST, 4 TEST, 5 TEST, 6 /RESET, 7 RESERVED, 8 /CTS, 9 RX_IND, 10 TX_IND, 11 /RTS, 12 /DATA_IND, 13 RESERVED, 14 RESERVED, 15 RESERVED, 16 RESERVED, 17 TRX_DISABLE, 18 GND, 19 GND, 20 /CONFIG, 21 RESERVED, 22 /DATA_REQ, 23 RESERVED, 24 RESERVED, 25 RESERVED, 26 UTXD, 27 URXD, 28 RESERVED, 29 RESERVED, 30 RESERVED, 31 TEST, 32 TEST, 33 VCC, 34 VCC, 35 GND, 36 GND

## WIRL-PRO8_2609011081000
designator MOD?
Tarvos-III - Radio Modules 868 MHz, with PCB-antenna; Part Number: 2609011081000; RX sensitivity e.r.p.: -104dBm; Line of Sight Range: 1000m; Frequency: 865-870MHz; Output Power e.r.p.: -8dBm; Operating Supply Voltage max.: 3.8V; Operating Supply Voltage min.: 2.2V; RF Bitrate max.: 400kbps; ComponentLink1Description: Manufacturer; ComponentLink1URL: http://www.we-online.de; ComponentLink2Description: Datasheet; ComponentLink2URL: https://katalog.we-online.de/wco/datasheet/2609011081000.pdf; Published Date: April 2019; Publisher: Wurth Elektronik; Operating Temperature: -40 to +85degC; Mounting Technology: SMT; Packaging: Tape and Reel
footprint WE-FP-1+
pins: 1 RESERVED, 2 GND, 3 VCC, 4 UTXD, 5 URXD, 6 /RTS, 7 RESERVED, 8 RESERVED, 9 RESERVED, 10 RESERVED, 11 RESERVED, 12 BOOT, 13 RESERVED, 14 WAKE_UP, 15 MODE_1, 16 RESERVED, 17 RESERVED, 18 RESERVED, 19 /RESET, 20 RX_IND, 21 TX_IND, 22 RESERVED, 23 GND, i1 TEST, i2 TEST, i3 TEST, i4 TEST

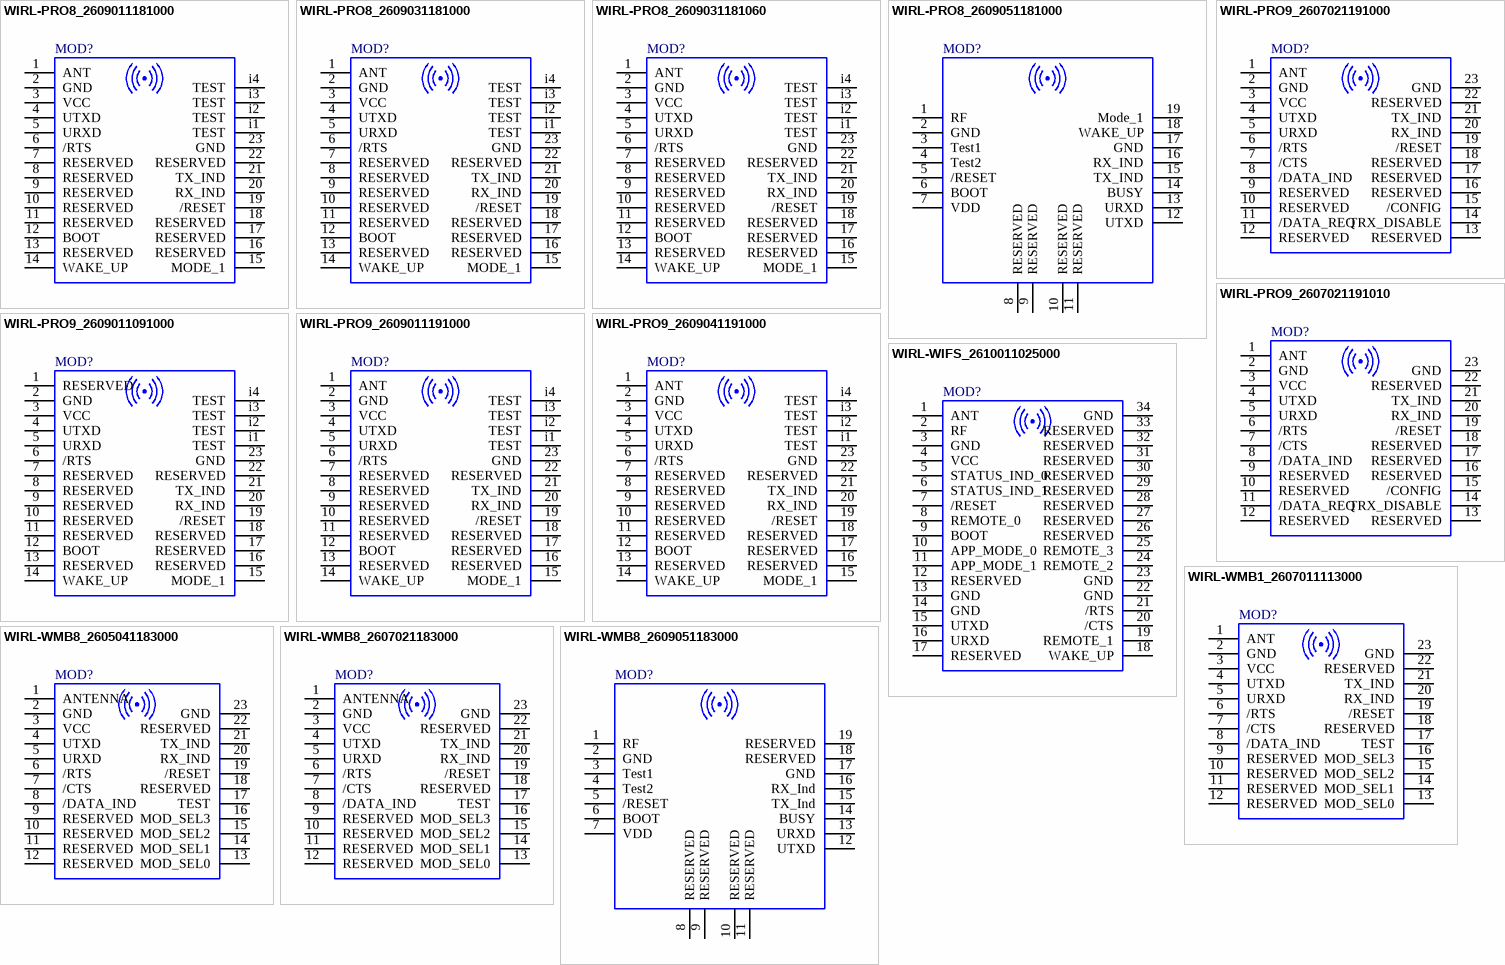
[diagram p2: symbols WIRL-PRO8_2609011181000 to WIRL-WMB8_2609051183000]

## WIRL-PRO8_2609011181000
designator MOD?
Tarvos-III - Radio Modules 868 MHz, with ext. antenna; Part Number: 2609011181000; RX sensitivity e.r.p.: –; Line of Sight Range: 10000m; Frequency: 865-870MHz; Operating Supply Voltage max.: 3.8V; Operating Supply Voltage min.: 2.2V; RF Bitrate max.: 400kbps; ComponentLink1Description: Manufacturer; ComponentLink1URL: http://www.we-online.de; ComponentLink2Description: Datasheet; ComponentLink2URL: https://katalog.we-online.de/wco/datasheet/2609011181000.pdf; Published Date: April 2019; Publisher: Wurth Elektronik; Operating Temperature: -40 to +85degC; Mounting Technology: SMT; Packaging: Tape and Reel; Output Power e.r.p.: –
footprint WE-FP-1+
pins: 1 ANT, 2 GND, 3 VCC, 4 UTXD, 5 URXD, 6 /RTS, 7 RESERVED, 8 RESERVED, 9 RESERVED, 10 RESERVED, 11 RESERVED, 12 BOOT, 13 RESERVED, 14 WAKE_UP, 15 MODE_1, 16 RESERVED, 17 RESERVED, 18 RESERVED, 19 /RESET, 20 RX_IND, 21 TX_IND, 22 RESERVED, 23 GND, i1 TEST, i2 TEST, i3 TEST, i4 TEST

## WIRL-PRO8_2609031181000
designator MOD?
Thebe-II - Radio Modules 868 MHz; Part Number: 2609031181000; RX sensitivity e.r.p.: –; Line of Sight Range: 20000m; Frequency: 869.4-869.65MHz; Operating Supply Voltage max.: 3.8V; Operating Supply Voltage min.: 2.2V; RF Bitrate max.: 100kbps; ComponentLink1Description: Manufacturer; ComponentLink1URL: http://www.we-online.de; ComponentLink2Description: Datasheet; ComponentLink2URL: https://katalog.we-online.de/wco/datasheet/2609031181000.pdf; Published Date: April 2019; Publisher: Wurth Elektronik; Operating Temperature: -40 to +85degC; Mounting Technology: SMT; Packaging: Tape and Reel; Output Power e.r.p.: –
footprint 2609031181000 (Compatible to Footprint WE-FP-1+)
pins: 1 ANT, 2 GND, 3 VCC, 4 UTXD, 5 URXD, 6 /RTS, 7 RESERVED, 8 RESERVED, 9 RESERVED, 10 RESERVED, 11 RESERVED, 12 BOOT, 13 RESERVED, 14 WAKE_UP, 15 MODE_1, 16 RESERVED, 17 RESERVED, 18 RESERVED, 19 /RESET, 20 RX_IND, 21 TX_IND, 22 RESERVED, 23 GND, i1 TEST, i2 TEST, i3 TEST, i4 TEST

## WIRL-PRO8_2609031181060
designator MOD?
Thebe-II-IN - Radio Modules 868 MHz; Part Number: 2609031181060; RX sensitivity e.r.p.: –; Line of Sight Range: 20000m; Frequency: 869.4-869.65MHz; Operating Supply Voltage max.: 3.8V; Operating Supply Voltage min.: 2.2V; RF Bitrate max.: 100kbps; ComponentLink1Description: Manufacturer; ComponentLink1URL: http://www.we-online.de; ComponentLink2Description: Datasheet; ComponentLink2URL: https://katalog.we-online.de/wco/datasheet/2609031181060.pdf; Published Date: July 2024; Publisher: Wurth Elektronik; Operating Temperature: -40 to +85degC; Mounting Technology: SMT; Packaging: Tape and Reel; Output Power e.r.p.: –
footprint 2609031181000 (Compatible to Footprint WE-FP-1+)
pins: 1 ANT, 2 GND, 3 VCC, 4 UTXD, 5 URXD, 6 /RTS, 7 RESERVED, 8 RESERVED, 9 RESERVED, 10 RESERVED, 11 RESERVED, 12 BOOT, 13 RESERVED, 14 WAKE_UP, 15 MODE_1, 16 RESERVED, 17 RESERVED, 18 RESERVED, 19 /RESET, 20 RX_IND, 21 TX_IND, 22 RESERVED, 23 GND, i1 TEST, i2 TEST, i3 TEST, i4 TEST

## WIRL-PRO8_2609051181000
designator MOD?
Tavos-e - Proprietary 868 MHz Radio Module   WIRL-PRO8  - RF Pad; MANUFACTURER: Würth Elektronik; NR: 2609051181000; Operating Supply Voltage max.: 3.8 V; Operating Supply Voltage min.: 2.2 V; Packaging: Tape and reel; HEIGHT: 2mm; Mounting technology: SMT; Operating temperature: -40°C to 85° C; ComponentLink1Description: Manufacturer; ComponentLink1URL: http://www.we-online.de; ComponentLink2Description: Datasheet; ComponentLink2URL: https://we-online.de/katalog/en/article/2609051181000
footprint WE-FP-4B
pins: 1 RF, 2 GND, 3 Test1, 4 Test2, 5 /RESET, 6 BOOT, 7 VDD, 8 RESERVED, 9 RESERVED, 10 RESERVED, 11 RESERVED, 12 UTXD, 13 URXD, 14 BUSY, 15 TX_IND, 16 RX_IND, 17 GND, 18 WAKE_UP, 19 Mode_1

## WIRL-PRO9_2607021191000
designator MOD?
Telesto-I - Radio Modules 915 MHz; Part Number: 2607021191000; Line of Sight Range: 550m; Frequency: 902.5-927.5MHz; Operating Supply Voltage max.: 3.6V; Operating Supply Voltage min.: 2V; RF Bitrate max.: 100kbps; ComponentLink1Description: Manufacturer; ComponentLink1URL: http://www.we-online.de; ComponentLink2Description: Datasheet; ComponentLink2URL: https://katalog.we-online.de/wco/datasheet/2607021191000.pdf; Published Date: April 2019; Publisher: Wurth Elektronik; Operating Temperature: -40 to +85degC; Mounting Technology: SMT; Packaging: Tape and Reel
footprint WE-FP-1
pins: 1 ANT, 2 GND, 3 VCC, 4 UTXD, 5 URXD, 6 /RTS, 7 /CTS, 8 /DATA_IND, 9 RESERVED, 10 RESERVED, 11 /DATA_REQ, 12 RESERVED, 13 RESERVED, 14 TRX_DISABLE, 15 /CONFIG, 16 RESERVED, 17 RESERVED, 18 RESERVED, 19 /RESET, 20 RX_IND, 21 TX_IND, 22 RESERVED, 23 GND

## WIRL-PRO9_2607021191010
designator MOD?
Telesto-II - Radio Modules 915 MHz; Part Number: 2607021191010; Line of Sight Range: 700m; Frequency: 902.5-927.5MHz; Operating Supply Voltage max.: 3.6V; Operating Supply Voltage min.: 2V; RF Bitrate max.: 38.4kbps; ComponentLink1Description: Manufacturer; ComponentLink1URL: http://www.we-online.de; ComponentLink2Description: Datasheet; ComponentLink2URL: https://katalog.we-online.de/wco/datasheet/2607021191010.pdf; Published Date: April 2019; Publisher: Wurth Elektronik; Operating Temperature: -40 to +85degC; Mounting Technology: SMT; Packaging: Tape and Reel
footprint WE-FP-1
pins: 1 ANT, 2 GND, 3 VCC, 4 UTXD, 5 URXD, 6 /RTS, 7 /CTS, 8 /DATA_IND, 9 RESERVED, 10 RESERVED, 11 /DATA_REQ, 12 RESERVED, 13 RESERVED, 14 TRX_DISABLE, 15 /CONFIG, 16 RESERVED, 17 RESERVED, 18 RESERVED, 19 /RESET, 20 RX_IND, 21 TX_IND, 22 RESERVED, 23 GND

## WIRL-PRO9_2609011091000
designator MOD?
Telesto-III - Radio Modules 915 MHz, with PCB antenna; Part Number: 2609011091000; Line of Sight Range: –; Frequency: 902.5-927.5MHz; Operating Supply Voltage max.: 3.8V; Operating Supply Voltage min.: 2.2V; RF Bitrate max.: 400kbps; ComponentLink1Description: Manufacturer; ComponentLink1URL: http://www.we-online.de; ComponentLink2Description: Datasheet; ComponentLink2URL: https://katalog.we-online.de/wco/datasheet/2609011091000.pdf; Published Date: April 2019; Publisher: Wurth Elektronik; Operating Temperature: -40 to +85degC; Mounting Technology: SMT; Packaging: Tape and Reel
footprint WE-FP-1+
pins: 1 RESERVED, 2 GND, 3 VCC, 4 UTXD, 5 URXD, 6 /RTS, 7 RESERVED, 8 RESERVED, 9 RESERVED, 10 RESERVED, 11 RESERVED, 12 BOOT, 13 RESERVED, 14 WAKE_UP, 15 MODE_1, 16 RESERVED, 17 RESERVED, 18 RESERVED, 19 /RESET, 20 RX_IND, 21 TX_IND, 22 RESERVED, 23 GND, i1 TEST, i2 TEST, i3 TEST, i4 TEST

## WIRL-PRO9_2609011191000
designator MOD?
Telesto-III - Radio Modules 915 MHz, with module pad; Part Number: 2609011191000; Line of Sight Range: 800m; Frequency: 902.5-927.5MHz; Operating Supply Voltage max.: 3.8V; Operating Supply Voltage min.: 2.2V; RF Bitrate max.: 400kbps; ComponentLink1Description: Manufacturer; ComponentLink1URL: http://www.we-online.de; ComponentLink2Description: Datasheet; ComponentLink2URL: https://katalog.we-online.de/wco/datasheet/2609011191000.pdf; Published Date: April 2019; Publisher: Wurth Elektronik; Operating Temperature: -40 to +85degC; Mounting Technology: SMT; Packaging: Tape and Reel
footprint WE-FP-1+
pins: 1 ANT, 2 GND, 3 VCC, 4 UTXD, 5 URXD, 6 /RTS, 7 RESERVED, 8 RESERVED, 9 RESERVED, 10 RESERVED, 11 RESERVED, 12 BOOT, 13 RESERVED, 14 WAKE_UP, 15 MODE_1, 16 RESERVED, 17 RESERVED, 18 RESERVED, 19 /RESET, 20 RX_IND, 21 TX_IND, 22 RESERVED, 23 GND, i1 TEST, i2 TEST, i3 TEST, i4 TEST

## WIRL-PRO9_2609041191000
designator MOD?
Thermisto-I - Radio Modules 915 MHz; Part Number: 2609031181000; RX sensitivity e.r.p.: –; Line of Sight Range: 20000m; Frequency: 869.4-869.65MHz; Operating Supply Voltage max.: 3.8V; Operating Supply Voltage min.: 2.2V; RF Bitrate max.: 100kbps; ComponentLink1Description: Manufacturer; ComponentLink1URL: http://www.we-online.de; ComponentLink2Description: Datasheet; ComponentLink2URL: https://katalog.we-online.de/wco/datasheet/2609041191000.pdf; Published Date: April 2019; Publisher: Wurth Elektronik; Operating Temperature: -40 to +85degC; Mounting Technology: SMT; Packaging: Tape and Reel; Output Power e.r.p.: –
footprint 2609041191000 (Compatible to Footprint WE-FP-1+)
pins: 1 ANT, 2 GND, 3 VCC, 4 UTXD, 5 URXD, 6 /RTS, 7 RESERVED, 8 RESERVED, 9 RESERVED, 10 RESERVED, 11 RESERVED, 12 BOOT, 13 RESERVED, 14 WAKE_UP, 15 MODE_1, 16 RESERVED, 17 RESERVED, 18 RESERVED, 19 /RESET, 20 RX_IND, 21 TX_IND, 22 RESERVED, 23 GND, i1 TEST, i2 TEST, i3 TEST, i4 TEST

## WIRL-WIFS_2610011025000
designator MOD?
Calypso - Wi-Fi Radio Module; Part Number: 2610011025000; RX sensitivity e.r.p.: -94dBm; Line of Sight Range: 400m; Frequency: 2412-2472MHz; Output Power e.r.p.: 18dBm; Operating Supply Voltage max.: 3.6V; Operating Supply Voltage min.: 2.1V; RF Bitrate max.: 72200kbps; ComponentLink1Description: Manufacturer; ComponentLink1URL: http://www.we-online.de; ComponentLink2Description: Datasheet; ComponentLink2URL: https://katalog.we-online.de/wco/datasheet/2610011025000.pdf; Published Date: April 2019; Publisher: Wurth Elektronik; Operating Temperature: -40 to +85degC; Mounting Technology: SMT; Packaging: Tape and Reel
footprint WE-FP-5 (Calypso WIFI module  T&R)
pins: 1 ANT, 2 RF, 3 GND, 4 VCC, 5 STATUS_IND_0, 6 STATUS_IND_1, 7 /RESET, 8 REMOTE_0, 9 BOOT, 10 APP_MODE_0, 11 APP_MODE_1, 12 RESERVED, 13 GND, 14 GND, 15 UTXD, 16 URXD, 17 RESERVED, 18 WAKE_UP, 19 REMOTE_1, 20 /CTS, 21 /RTS, 22 GND, 23 GND, 24 REMOTE_2, 25 REMOTE_3, 26 RESERVED, 27 RESERVED, 28 RESERVED, 29 RESERVED, 30 RESERVED, 31 RESERVED, 32 RESERVED, 33 RESERVED, 34 GND

## WIRL-WMB1_2607011113000
designator MOD?
Mimas-I - Radio Module 169 MHz wM-bus; Part Number: 2607011113000; Line of Sight Range: 3000m; Frequency: 169.40625-169.46875MHz; Operating Supply Voltage max.: 3.6V; Operating Supply Voltage min.: 2V; RF Bitrate max.: 4.8kbps; ComponentLink1Description: Manufacturer; ComponentLink1URL: http://www.we-online.de; ComponentLink2Description: Datasheet; ComponentLink2URL: https://katalog.we-online.de/wco/datasheet/2607011113000.pdf; Published Date: April 2019; Publisher: Wurth Elektronik; Operating Temperature: -40 to +85degC; Mounting Technology: SMT; Packaging: Tape and Reel
footprint WE-FP-1
pins: 1 ANT, 2 GND, 3 VCC, 4 UTXD, 5 URXD, 6 /RTS, 7 /CTS, 8 /DATA_IND, 9 RESERVED, 10 RESERVED, 11 RESERVED, 12 RESERVED, 13 MOD_SEL0, 14 MOD_SEL1, 15 MOD_SEL2, 16 MOD_SEL3, 17 TEST, 18 RESERVED, 19 /RESET, 20 RX_IND, 21 TX_IND, 22 RESERVED, 23 GND

## WIRL-WMB8_2605041183000
designator MOD?
Metis-I - 868MHz Radio Modules wM-bus; Part Number: 2605041183000; Line of Sight Range: 700m; Frequency: 868.3-869.525MHz; Operating Supply Voltage max.: 3.6V; Operating Supply Voltage min.: 2.2V; RF Bitrate max.: 100kbps; ComponentLink1Description: Manufacturer; ComponentLink1URL: http://www.we-online.de; ComponentLink2Description: Datasheet; ComponentLink2URL: https://katalog.we-online.de/wco/datasheet/2605041183000.pdf; Published Date: April 2019; Publisher: Wurth Elektronik; Operating Temperature: -30 to +85degC; Mounting Technology: SMT; Packaging: Tape and Reel
footprint WE-FP-1
pins: 1 ANTENNA, 2 GND, 3 VCC, 4 UTXD, 5 URXD, 6 /RTS, 7 /CTS, 8 /DATA_IND, 9 RESERVED, 10 RESERVED, 11 RESERVED, 12 RESERVED, 13 MOD_SEL0, 14 MOD_SEL1, 15 MOD_SEL2, 16 MOD_SEL3, 17 TEST, 18 RESERVED, 19 /RESET, 20 RX_IND, 21 TX_IND, 22 RESERVED, 23 GND

## WIRL-WMB8_2607021183000
designator MOD?
Metis-II - 868MHz Radio Modules wM-bus; Part Number: 2607021183000; Line of Sight Range: 1000m; Frequency: 868.3-869.525MHz; Operating Supply Voltage max.: 3.6V; Operating Supply Voltage min.: 2V; RF Bitrate max.: 100kbps; ComponentLink1Description: Manufacturer; ComponentLink1URL: http://www.we-online.de; ComponentLink2Description: Datasheet; ComponentLink2URL: https://katalog.we-online.de/wco/datasheet/2607021183000.pdf; Published Date: April 2019; Publisher: Wurth Elektronik; Operating Temperature: -40 to +85degC; Mounting Technology: SMT; Packaging: Tape and Reel
footprint WE-FP-1
pins: 1 ANTENNA, 2 GND, 3 VCC, 4 UTXD, 5 URXD, 6 /RTS, 7 /CTS, 8 /DATA_IND, 9 RESERVED, 10 RESERVED, 11 RESERVED, 12 RESERVED, 13 MOD_SEL0, 14 MOD_SEL1, 15 MOD_SEL2, 16 MOD_SEL3, 17 TEST, 18 RESERVED, 19 /RESET, 20 RX_IND, 21 TX_IND, 22 RESERVED, 23 GND

## WIRL-WMB8_2609051183000
designator MOD?
Metis-e - wM-bus 868 MHz Radio Module   WIRL-WMB8  - RF Pad; MANUFACTURER: Würth Elektronik; NR: 2609051183000; Operating Supply Voltage max.: 3.8 V; Operating Supply Voltage min.: 2.2 V; Packaging: Tape and reel; HEIGHT: 2mm; Mounting technology: SMT; Operating temperature: -40°C to 85° C; ComponentLink1Description: Manufacturer; ComponentLink1URL: http://www.we-online.de; ComponentLink2Description: Datasheet; ComponentLink2URL: https://we-online.de/katalog/en/article/2609051181000
footprint WE-FP-4B
pins: 1 RF, 2 GND, 3 Test1, 4 Test2, 5 /RESET, 6 BOOT, 7 VDD, 8 RESERVED, 9 RESERVED, 10 RESERVED, 11 RESERVED, 12 UTXD, 13 URXD, 14 BUSY, 15 TX_Ind, 16 RX_Ind, 17 GND, 18 RESERVED, 19 RESERVED